# EAGLE library part RN2903A-I_RM105 (library RN2903A-I_RM105)
MICROCHIP - RN2903A-I/RM105 - TRANSCEIVER MODULE, 300KBPS, 928MHZ Source: Datasheet <http://ww1.microchip.com/downloads/en/DeviceDoc/RN2903-LoRa-Technology-Transceiver-Module-Data-Sheet-DS50002390G.pdf>
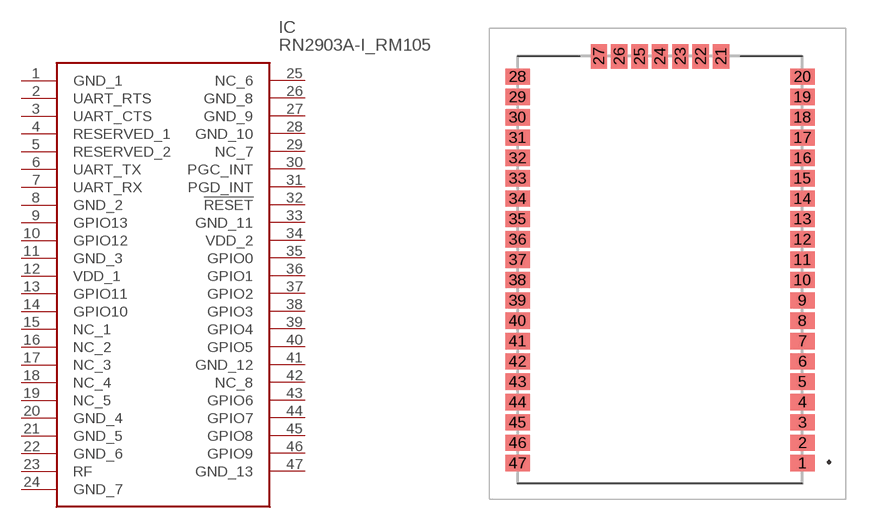
[diagram p0: symbol with the pads of RN2903AIRM105; footprint RN2903AIRM105]

Designator prefix IC

## RN2903A-I_RM105 (Description: MICROCHIP - RN2903A-I/RM105 - TRANSCEIVER MODULE, 300KBPS, 928MHZ; Height: 3.34mm; Manufacturer_Name: Microchip; Manufacturer_Part_Number: RN2903A-I/RM105; Mouser_Part_Number: 579-RN2903A-I/RM105; Mouser_Price-Stock: https://www.mouser.co.uk/ProductDetail/Microchip-Technology/RN2903A-I-RM105?qs=PqoDHHvF648ggy%252BxQbPa3A%3D%3D)  [RN2903AIRM105]
1  GND_1
2  UART_RTS
3  UART_CTS
4  RESERVED_1
5  RESERVED_2
6  UART_TX
7  UART_RX
8  GND_2
9  GPIO13
10  GPIO12
11  GND_3
12  VDD_1
13  GPIO11
14  GPIO10
15  NC_1
16  NC_2
17  NC_3
18  NC_4
19  NC_5
20  GND_4
21  GND_5
22  GND_6
23  RF
24  GND_7
25  NC_6
26  GND_8
27  GND_9
28  GND_10
29  NC_7
30  PGC_INT
31  PGD_INT
32  !RESET
33  GND_11
34  VDD_2
35  GPIO0
36  GPIO1
37  GPIO2
38  GPIO3
39  GPIO4
40  GPIO5
41  GND_12
42  NC_8
43  GPIO6
44  GPIO7
45  GPIO8
46  GPIO9
47  GND_13

## Footprint RN2903AIRM105 (pad centres in mm)
RN2903A-I/RM105-2
smd 1.524 x 1.016: 1 8.89,-12.065; 2 8.89,-10.795; 3 8.89,-9.525; 4 8.89,-8.255; 5 8.89,-6.985; 6 8.89,-5.715; 7 8.89,-4.445; 8 8.89,-3.175; 9 8.89,-1.905; 10 8.89,-0.635; 11 8.89,0.635; 12 8.89,1.905; 13 8.89,3.175; 14 8.89,4.445; 15 8.89,5.715; 16 8.89,6.985; 17 8.89,8.255; 18 8.89,9.525; 19 8.89,10.795; 20 8.89,12.065; 28 -8.89,12.065; 29 -8.89,10.795; 30 -8.89,9.525; 31 -8.89,8.255; 32 -8.89,6.985; 33 -8.89,5.715; 34 -8.89,4.445; 35 -8.89,3.175; 36 -8.89,1.905; 37 -8.89,0.635; 38 -8.89,-0.635; 39 -8.89,-1.905; 40 -8.89,-3.175; 41 -8.89,-4.445; 42 -8.89,-5.715; 43 -8.89,-6.985; 44 -8.89,-8.255; 45 -8.89,-9.525; 46 -8.89,-10.795; 47 -8.89,-12.065
smd 1.016 x 1.524: 21 3.81,13.335; 22 2.54,13.335; 23 1.27,13.335; 24 0,13.335; 25 -1.27,13.335; 26 -2.54,13.335; 27 -3.81,13.335